# EAGLE library part 1312121320437 (library WL-ICLED)
WL-ICLED Integrated Controller within LED Characteristics Compatible with open source libraries such as FastLED Ready to use with pre-programmed IC 0% to 100% digital dimming via command Individual pixel colour and brightness control Full RGB spectrum Signal control system Applications Signal control system Full-color matrix display Audio and gaming systems Indoor illumination E-mobility <https://www.we-online.com/components/media/o752565v209%20Family-WL-ICLED.jpg> Details see: www.we-online.com/components/products/WL-ICLED <www.we-online.com/catalog/WL-ICLED/?utm_source=eagle_model&utm_medium=description_link&utm_campaign=eisos_eagle> Created by Ella Wu 2024-02-23 2024 (C) Wurth Elektronik
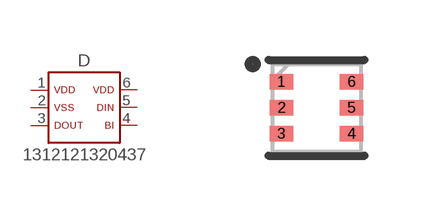
[diagram p2: symbol with the pads of 1312121320437; footprint 1312121320437]

Designator prefix D

## 1312121320437 (DATASHEET-URL: https://www.we-online.com/redexpert/spec/1312121320437?ae; DOMINANT-WAVELENGTH: 470nm & 525nm & 625nm; EMITTING-COLOR: Red & Green & Blue; FPWM: 0.6kHz; IC-OUTPUT-CURRENT: 20mA; LUMINOUS-INTENSITY: 240mcd & 1000mcd & 600mcd; PART-NUMBER: 1312121320437; PEAK-WAVELENGTH: 465nm & 520nm & 630nm; VALUE: 1312121320437; VIEWING-ANGLE: 110°)  [1312121320437]
1  1  pas
2  2  pas
3  3  pas
4  4  pas
5  5  pas
6  6  pas

## Footprint 1312121320437 (pad centres in mm)
WL-ICLED Integrated Controller within LED Size: PLCC 6 2121, SMT, 6pins LXWXH=2.2X2.2X1.1mm
smd 0.585 x 0.39: 1 -0.875,0.65; 2 -0.875,0; 3 -0.875,-0.65; 4 0.875,-0.65; 5 0.875,0; 6 0.875,0.65